# EAGLE library part 750313442 (library wurth_electronics_midcom_inc_v2-1)
Package Style: EP10 Mounting: SMD Pins: 8 pins Bobbin: 070-6052 Best pinouts for production vary per application. Please contact Wurth Electronics Midcom, Inc. for assistance with your custom design. Website: Wurth Electronics Midcom <http://www.we-online.com/midcom> Contact us Wurth Electronics Midcom, Inc. 121 Airport Dr. Watertown, SD 57201 Phone: (605) 886-4385 Fax: (605) 886-4486 E-Mail: midcom@we-online.com
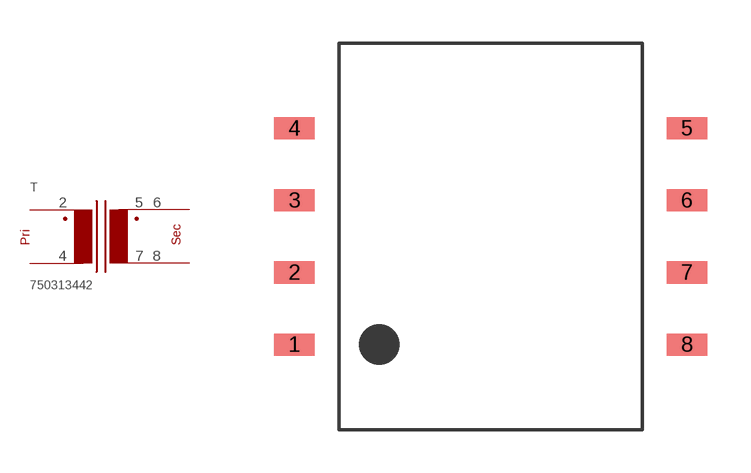
[diagram p122: symbol with the pads of EP10_SMD_H_8PIN_(6052); footprint EP10_SMD_H_8PIN_(6052)]

Designator prefix T

## 750313442  [EP10_SMD_H_8PIN_(6052)]
2  2  pas
4  4  pas
5  5  pas
6  6  pas
7  7  pas
8  8  pas

## Footprint EP10_SMD_H_8PIN_(6052) (pad centres in mm)
Package Style: EP10 Mounting: SMD Pins: 8 Bobbin: 070-6052
smd 1.397 x 0.762: 1 -6.782,-3.734; 2 -6.782,-1.245; 3 -6.782,1.245; 4 -6.782,3.734; 5 6.782,3.734; 6 6.782,1.245; 7 6.782,-1.245; 8 6.782,-3.734